# Altium footprint library EE194_PCB.PcbLib: 39 footprints (part 2 of 3)
Each footprint in its own frame and in the unit in brackets; x right, y up, seen from the top. Pads: shape width x height; smd on the part's side, far side on the other; paste and mask are expansions set on the pad; w line width, h text height; cw(c..) or ccw(c..) is an arc to the next point about the centre after c.
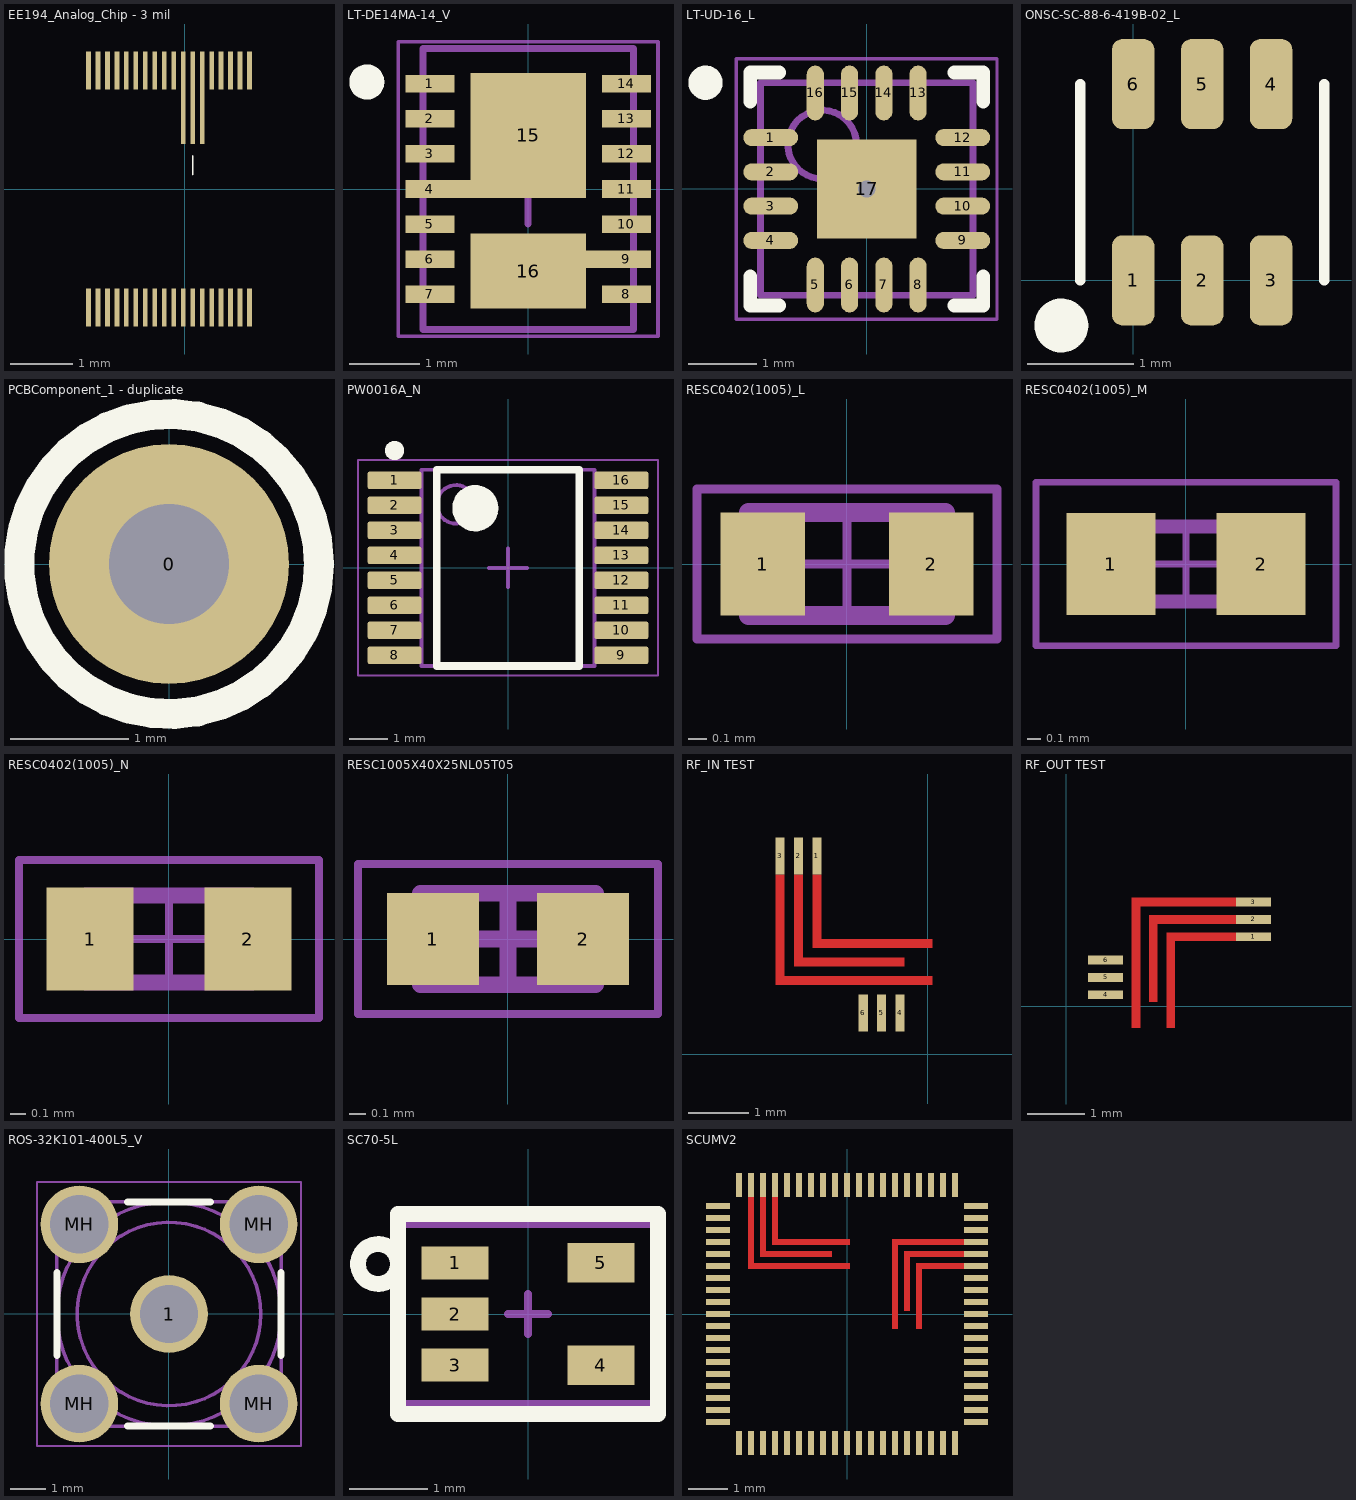
[diagram p1: the footprints below, top view; thin cyan lines are the x and y axes]

## EE194_Analog_Chip - 3 mil [mil]
pads (39):
  rect 3x24 smd paste-3 mask+4: 1(-61,75) 2(-55,75) 3(-49,75) 4(-43,75) 5(-37,75) 6(-31,75) 7(-25,75) 8(-19,75) 9(-13,75) 10(-7,75) 11(-1,75) 12(5,75) 13(11,75) 14(17,75) 15(23,75) 16(29,75) 17(35,75) 18(41,75) 19(41,-75) 20(35,-75) 21(29,-75) 22(23,-75) 23(17,-75) 24(11,-75) 25(5,-75) 26(-1,-75) 27(-7,-75) 28(-13,-75) 29(-19,-75) 30(-25,-75) 31(-31,-75) 32(-37,-75) 33(-43,-75) 34(-49,-75) 35(-55,-75) 36(-61,-75)
  rect 3x35 smd paste-3 mask-3: 11(-1,46) 12(5,46) 13(11,46)
Top Overlay:
  lines w1: 5,9 5,21
Top Paste:
  region: -21.65,21.65 -21.65,-21.65 21.65,-21.65 21.65,21.65
Top Solder:
  region: 65,95 -85,95 -85,-95 65,-95

## LT-DE14MA-14_V [mm] "DE14MA, 14-Leads, Body 4x3mm, Pitch 0.5mm"
height 0.75
pads (18):
  rect 0.7x0.25 smd mask+0.048: 1(-1.4,1.5) 2(-1.4,1) 3(-1.4,0.5) 4(-1.4,0) 5(-1.4,-0.5) 6(-1.4,-1) 7(-1.4,-1.5) 8(1.4,-1.5) 9(1.4,-1) 10(1.4,-0.5) 11(1.4,0) 12(1.4,0.5) 13(1.4,1) 14(1.4,1.5)
  rect 1.65x1.78 smd mask+0.048: 15(0,0.765)
  rect 1.65x1.07 smd mask+0.048: 16(0,-1.17)
  rect 0.3x0.25 smd mask+0.048: ""(-0.97,0)
  rect 0.5x0.25 smd mask+0.048: ""(0.9,-1)
Top Overlay:
  circle w0.25: c-2.3,1.525 r0.125
Mechanical 13:
  lines w0.1: -1.5,-2 1.5,-2 1.5,2 -1.5,2 -1.5,-2
Mechanical 15:
  lines w0.05: -1.85,-2.1 -1.85,2.1 1.85,2.1 1.85,-2.1 -1.85,-2.1
  lines w0.1: -0.5,0 0.5,0 ; 0,-0.5 0,0.5
3D body: height 0.75, standoff 0, extent -1.5,-2 1.5,2

## LT-UD-16_L [mm] "QFN, 16-Leads, Body 3x3mm, Pitch 0.5mm, Thermal Pad 1.45x1.45mm, IPC High Density"
height 0.8
pads (17):
  oval 0.8x0.25 smd mask+0.061: 1(-1.4,0.75) 2(-1.4,0.25) 3(-1.4,-0.25) 4(-1.4,-0.75) 9(1.4,-0.75) 10(1.4,-0.25) 11(1.4,0.25) 12(1.4,0.75)
  oval 0.25x0.8 smd mask+0.061: 5(-0.75,-1.4) 6(-0.25,-1.4) 7(0.25,-1.4) 8(0.75,-1.4) 13(0.75,1.4) 14(0.25,1.4) 15(-0.25,1.4) 16(-0.75,1.4)
  rect 1.45x1.45 smd mask+0.061: 17(0,0)
via 0,0 diameter 0.559 hole 0.254
Top Overlay:
  circle w0.25: c-2.35,1.55 r0.125
  lines w0.2: -1.7,-1.275 -1.7,-1.7 -1.275,-1.7 ; -1.7,1.275 -1.7,1.7 -1.275,1.7 ; 1.275,-1.7 1.7,-1.7 1.7,-1.275 ; 1.275,1.7 1.7,1.7 1.7,1.275
Mechanical 13:
  circle w0.1: c-0.65,0.65 r0.5
  lines w0.1: -1.55,-1.55 -1.55,1.55 1.55,1.55 1.55,-1.55 -1.55,-1.55
Mechanical 15:
  lines w0.05: -1.9,-1.9 -1.9,1.9 1.9,1.9 1.9,-1.9 -1.9,-1.9
  lines w0.1: -0.5,0 0.5,0 ; 0,-0.5 0,0.5
3D body: height 0.8, standoff 0, extent -1.55,-1.55 1.55,1.55

## ONSC-SC-88-6-419B-02_L [mm] "SOT363, 6-Leads, Body 2x1.25mm, Pitch 0.65mm, IPC High Density"
pads (6):
  rrect50% 0.4x0.85 smd mask+0.061: 1(0,0) 2(0.65,0) 3(1.3,0) 4(1.3,1.85) 5(0.65,1.85) 6(0,1.85)
Top Overlay:
  circle w0.254: c-0.677,-0.425 r0.127
  lines w0.1: -0.5,0 -0.5,1.85 ; 1.8,0 1.8,1.85
3D body: height 0.25, standoff 0.13, extent -0.073,1.015 0.105,1.752
3D body: height 0.13, standoff 0, extent -0.073,1.688 0.105,2.225
3D body: height 0.25, standoff 0.13, extent 0.577,1.015 0.755,1.752
3D body: height 0.13, standoff 0, extent 0.577,1.688 0.755,2.225
3D body: height 0.25, standoff 0.13, extent 1.227,1.015 1.405,1.752
3D body: height 0.13, standoff 0, extent 1.227,1.688 1.405,2.225
3D body: height 0.25, standoff 0.13, extent -0.105,0.098 0.073,0.835
3D body: height 0.13, standoff 0, extent -0.105,-0.375 0.073,0.162
3D body: height 0.25, standoff 0.13, extent 0.545,0.098 0.723,0.835
3D body: height 0.13, standoff 0, extent 0.545,-0.375 0.723,0.162
3D body: height 0.13, standoff 0, extent 1.205,-0.375 1.383,0.162
3D body: height 0.25, standoff 0.13, extent 1.205,0.098 1.383,0.835
3D body: height 1.1, standoff 0, extent -0.429,0.252 1.729,1.7

## PCBComponent_1 [mil]

## PCBComponent_1 - duplicate [mil]
pads (1):
  round 80 hole 40: 0(0,0)
Top Overlay:
  circle w10: c0,0 r50

## PW0016A_N [mm] "SOP, 16-Leads, Body 5.1x4.5mm, Pitch 0.65mm, IPC Medium Density"
height 1.2
pads (16):
  rrect22% 1.4x0.45 smd mask+0.036: 1(-2.95,2.275) 2(-2.95,1.625) 3(-2.95,0.975) 4(-2.95,0.325) 5(-2.95,-0.325) 6(-2.95,-0.975) 7(-2.95,-1.625) 8(-2.95,-2.275) 9(2.95,-2.275) 10(2.95,-1.625) 11(2.95,-0.975) 12(2.95,-0.325) 13(2.95,0.325) 14(2.95,0.975) 15(2.95,1.625) 16(2.95,2.275)
Top Overlay:
  circle w0.25: c-2.95,3.05 r0.125
  circle w0.6: c-0.85,1.55 r0.3
  lines w0.2: -1.85,-2.55 -1.85,2.55 1.85,2.55 1.85,-2.55 -1.85,-2.55
Mechanical 13:
  circle w0.1: c-1.35,1.65 r0.5
  lines w0.1: -2.25,-2.55 -2.25,2.55 2.25,2.55 2.25,-2.55 -2.25,-2.55
Mechanical 15:
  lines w0.05: -3.9,-2.8 -3.9,2.8 3.9,2.8 3.9,-2.8 -3.9,-2.8
  lines w0.1: -0.5,0 0.5,0 ; 0,-0.5 0,0.5
3D body "PW0016AakaMTC16.stp": height 1, standoff 0, extent -3.21,-2.5 3.21,2.5

## RESC0402(1005)_L [mm] "Chip Resistor, Body 1.0x0.5mm, IPC High Density"
height 0.4
pads (2):
  rect 0.45x0.55 smd: 1(-0.45,0) 2(0.45,0)
Mechanical 13:
  lines w0.1: -0.525,-0.275 -0.525,0.275 0.525,0.275 0.525,-0.275 -0.525,-0.275
Mechanical 15:
  lines w0.05: -0.275,0 0.275,0 ; 0,-0.275 0,0.275 ; -0.8,-0.4 -0.8,0.4 0.8,0.4 0.8,-0.4 -0.8,-0.4
3D body: height 0.4, standoff 0, extent -0.525,-0.275 -0.3,0.275
3D body: height 0.4, standoff 0, extent -0.3,-0.275 0.3,0.275
3D body: height 0.4, standoff 0, extent 0.3,-0.275 0.525,0.275

## RESC0402(1005)_M [mm] "Chip Resistor, Body 1.0x0.5mm, IPC Low Density"
height 0.4
pads (2):
  rect 0.65x0.75 smd: 1(-0.55,0) 2(0.55,0)
Mechanical 13:
  lines w0.1: -0.525,-0.275 0.525,-0.275 0.525,0.275 -0.525,0.275 -0.525,-0.275
Mechanical 15:
  lines w0.05: -0.275,0 0.275,0 ; 0,-0.275 0,0.275 ; -1.1,-0.6 1.1,-0.6 1.1,0.6 -1.1,0.6 -1.1,-0.6
3D body: height 0.4, standoff 0, extent 0.3,-0.275 0.525,0.275
3D body: height 0.4, standoff 0, extent -0.3,-0.275 0.3,0.275
3D body: height 0.4, standoff 0, extent -0.525,-0.275 -0.3,0.275

## RESC0402(1005)_N [mm] "Chip Resistor, Body 1.0x0.5mm, IPC Medium Density"
height 0.4
pads (2):
  rect 0.55x0.65 smd: 1(-0.5,0) 2(0.5,0)
Mechanical 13:
  lines w0.1: -0.525,-0.275 -0.525,0.275 0.525,0.275 0.525,-0.275 -0.525,-0.275
Mechanical 15:
  lines w0.05: -0.275,0 0.275,0 ; 0,-0.275 0,0.275 ; -0.95,-0.5 -0.95,0.5 0.95,0.5 0.95,-0.5 -0.95,-0.5
3D body: height 0.4, standoff 0, extent 0.3,-0.275 0.525,0.275
3D body: height 0.4, standoff 0, extent -0.3,-0.275 0.3,0.275
3D body: height 0.4, standoff 0, extent -0.525,-0.275 -0.3,0.275

## RESC1005X40X25NL05T05 [mm] "Chip Resistor, 2-Leads, Body 1.00x0.50mm, IPC Medium Density"
height 0.4
pads (2):
  rect 0.55x0.55 smd: 1(-0.45,0) 2(0.45,0)
Mechanical 13:
  lines w0.1: -0.525,-0.275 0.525,-0.275 0.525,0.275 -0.525,0.275 -0.525,-0.275
Mechanical 15:
  lines w0.05: -0.9,-0.45 0.9,-0.45 0.9,0.45 -0.9,0.45 -0.9,-0.45
  lines w0.1: -0.275,0 0.275,0 ; 0,-0.275 0,0.275
3D body: height 0.4, standoff 0, extent 0.275,-0.275 0.525,0.275
3D body: height 0.4, standoff 0, extent -0.525,-0.275 -0.275,0.275
3D body: height 0.4, standoff 0, extent -0.275,-0.275 0.275,0.275

## RF_IN TEST [mil]
pads (6):
  rect 6x24 smd: 1(-72,129) 2(-84,129) 3(-96,129) 4(-18,27) 5(-30,27) 6(-42,27)
Top Layer:
  region: 3,69 3,75 -69,75 -69,69
  rectangle: -75,69 -69,117
  region: 3,45 3,51 -93,51 -93,45
  rectangle: -99,45 -93,117
  region: -81,117 -87,117 -87,57 -81,57
  region: -15,57 -15,63 -81,63 -81,57
Top Solder:
  region: 45,150 -150,150 -150,15 45,15

## RF_OUT TEST [mil]
pads (6):
  rect 24x6 smd: 1(129,48) 2(129,60) 3(129,72) 4(27,8) 5(27,20) 6(27,32)
Top Layer:
  rectangle: 57,3 63,57
  region: 117,57 117,63 57,63 57,57
  region: 45,75 45,69 117,69 117,75
  rectangle: 45,-15 51,69
  region: 69,51 69,45 117,45 117,51
  rectangle: 69,-15 75,45
Top Solder:
  region: 150,150 15,150 15,-57 150,-57

## ROS-32K101-400L5_V [mm] "SMA Straight Jack, 6.35x6.35x9.5mm, Rosenberger Recommended"
height 9.5
pads (5):
  round 2.2 hole 1.65: 1(0,0) MH(-2.54,-2.54) MH(-2.54,2.54) MH(2.54,-2.54) MH(2.54,2.54)
Top Overlay:
  lines w0.2: -3.175,-1.181 -3.175,1.181 ; -1.181,-3.175 1.181,-3.175 ; -1.181,3.175 1.181,3.175 ; 3.175,-1.181 3.175,1.181
Mechanical 13:
  circle w0.1: c0,0 r0.635
  circle w0.1: c0,0 r2.6
  circle w0.1: c0,0 r3.175
  lines w0.1: -3.19,-2.808 ccw(c0,0) -2.808,-3.191 ; -3.19,2.808 cw(c0,0) -2.808,3.19 ; -3.175,-2.794 -3.175,2.794 ; -3.04,-2.97 -3.04,-2.04 -2.04,-2.04 -2.04,-3.04 -2.97,-3.04 ; -3.04,2.97 -3.04,2.04 -2.04,2.04 -2.04,3.04 -2.97,3.04 ; -2.794,-3.175 2.794,-3.175 ; -2.794,3.175 2.794,3.175 ; -0.1,-0.627 -0.1,0.627 ; 0.1,-0.627 0.1,0.627 ; 2.808,-3.191 ccw(c0,0) 3.191,-2.808 ; 2.808,3.19 cw(c0,0) 3.191,2.808 ; 2.97,3.04 2.04,3.04 2.04,2.04 3.04,2.04 3.04,2.97 ; 2.97,-3.04 2.04,-3.04 2.04,-2.04 3.04,-2.04 3.04,-2.97 ; 3.175,-2.794 3.175,2.794
Mechanical 15:
  lines w0.05: -3.74,-3.74 3.74,-3.74 3.74,3.74 -3.74,3.74 -3.74,-3.74
  lines w0.1: -0.635,0 0.508,0 ; 0,-0.508 0,0.635
3D body "32k101-400l5.stp": height 9.5, standoff -4, extent -3.175,-3.175 3.175,3.175

## SC70-5L [mm] "SC70, 5-Leads, Body 2.20x2.7mm, Pitch 0.65mm"
height 1.16
pads (5):
  rect 0.85x0.42 smd mask+0.051: 1(-0.925,0.65) 2(-0.925,0) 3(-0.925,-0.65)
  rect 0.85x0.5 smd: 4(0.925,-0.65) 5(0.925,0.65)
Top Overlay:
  circle w0.2: c-1.905,0.635 r0.254
  lines w0.2: -1.651,-1.27 1.651,-1.27 1.651,1.27 -1.651,1.27 -1.651,-1.27
Mechanical 15:
  lines w0.1: -1.651,-1.143 -1.651,1.143 ; -0.254,0 0.254,0 ; 0,-0.254 0,0.254 ; 1.651,-1.143 1.651,1.143
  lines w0.102: -1.651,-1.143 1.651,-1.143 ; -1.651,1.143 1.651,1.143
3D body "WE-TVS_Standard_SC70-5L_STD.stp": height 1, standoff 0, extent -1.1,-1 1.1,1

## SCUMV2 [mil]
pads (76):
  rect 24x6 smd paste-3 mask-3: 1(-129,108) 2(-129,96) 3(-129,84) 4(-129,72) 5(-129,60) 6(-129,48) 7(-129,36) 8(-129,24) 9(-129,12) 10(-129,0) 11(-129,-12) 12(-129,-24) 13(-129,-36) 14(-129,-48) 15(-129,-60) 16(-129,-72) 17(-129,-84) 18(-129,-96) 19(-129,-108) 39(129,-108) 40(129,-96) 41(129,-84) 42(129,-72) 43(129,-60) 44(129,-48) 45(129,-36) 46(129,-24) 47(129,-12) 48(129,0) 49(129,12) 50(129,24) 51(129,36) 52(129,48) 53(129,60) 54(129,72) 55(129,84) 56(129,96) 57(129,108)
  rect 6x24 smd paste-3 mask-3: 20(-108,-129) 21(-96,-129) 22(-84,-129) 23(-72,-129) 24(-60,-129) 25(-48,-129) 26(-36,-129) 27(-24,-129) 28(-12,-129) 29(0,-129) 30(12,-129) 31(24,-129) 32(36,-129) 33(48,-129) 34(60,-129) 35(72,-129) 36(84,-129) 37(96,-129) 38(108,-129) 58(108,129) 59(96,129) 60(84,129) 61(72,129) 62(60,129) 63(48,129) 64(36,129) 65(24,129) 66(12,129) 67(0,129) 68(-12,129) 69(-24,129) 70(-36,129) 71(-48,129) 72(-60,129) 73(-72,129) 74(-84,129) 75(-96,129) 76(-108,129)
Top Layer:
  rectangle: 69,-15 75,45
  region: 69,51 69,45 117,45 117,51
  rectangle: 45,-15 51,69
  region: 45,75 45,69 117,69 117,75
  region: 117,57 117,63 57,63 57,57
  rectangle: 57,3 63,57
  region: -15,57 -15,63 -81,63 -81,57
  region: -81,117 -87,117 -87,57 -81,57
  rectangle: -99,45 -93,117
  region: 3,45 3,51 -93,51 -93,45
  rectangle: -75,69 -69,117
  region: 3,69 3,75 -69,75 -69,69
Top Solder:
  region: 150,-150 150,150 -150,150 -150,-150